# Altium footprint library Module_LattePanda(1).PcbLib: 2 footprints
Each footprint in its own frame and in the unit in brackets; x right, y up, seen from the top. Pads: shape width x height; smd on the part's side, far side on the other; paste and mask are expansions set on the pad; w line width, h text height; cw(c..) or ccw(c..) is an arc to the next point about the centre after c.
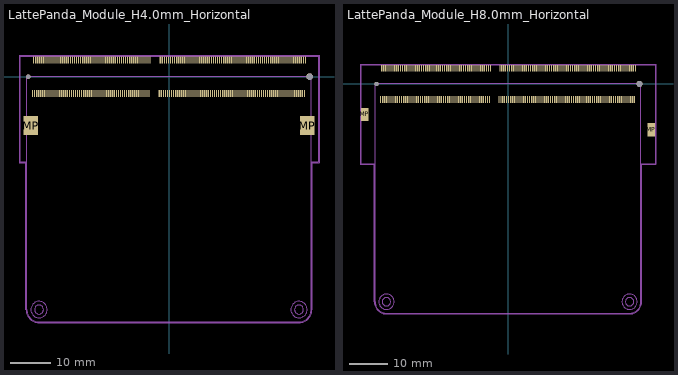
[diagram p0: the footprints below, top view; thin cyan lines are the x and y axes]

## LattePanda_Module_H4.0mm_Horizontal [mm]
pads (264):
  rect 0.3x1.75 smd: 1(33.375,4.1) 2(33.125,-4.1) 3(32.875,4.1) 4(32.625,-4.1) 5(32.375,4.1) 6(32.125,-4.1) 7(31.875,4.1) 8(31.625,-4.1) 9(31.375,4.1) 10(31.125,-4.1) 11(30.875,4.1) 12(30.625,-4.1) 13(30.375,4.1) 14(30.125,-4.1) 15(29.875,4.1) 16(29.625,-4.1) 17(29.375,4.1) 18(29.125,-4.1) 19(28.875,4.1) 20(28.625,-4.1) 21(28.375,4.1) 22(28.125,-4.1) 23(27.875,4.1) 24(27.625,-4.1) 25(27.375,4.1) 26(27.125,-4.1) 27(26.875,4.1) 28(26.625,-4.1) 29(26.375,4.1) 30(26.125,-4.1) 31(25.875,4.1) 32(25.625,-4.1) 33(25.375,4.1) 34(25.125,-4.1) 35(24.875,4.1) 36(24.625,-4.1) 37(24.375,4.1) 38(24.125,-4.1) 39(23.875,4.1) 40(23.625,-4.1) 41(23.375,4.1) 42(23.125,-4.1) 43(22.875,4.1) 44(22.625,-4.1) 45(22.375,4.1) 46(22.125,-4.1) 47(21.875,4.1) 48(21.625,-4.1) 49(21.375,4.1) 50(21.125,-4.1) 51(20.875,4.1) 52(20.625,-4.1) 53(20.375,4.1) 54(20.125,-4.1) 55(19.875,4.1) 56(19.625,-4.1) 57(19.375,4.1) 58(19.125,-4.1) 59(18.875,4.1) 60(18.625,-4.1) 61(18.375,4.1) 62(18.125,-4.1) 63(17.875,4.1) 64(17.625,-4.1) 65(17.375,4.1) 66(17.125,-4.1) 67(16.875,4.1) 68(16.625,-4.1) 69(16.375,4.1) 70(16.125,-4.1) 71(15.875,4.1) 72(15.625,-4.1) 73(15.375,4.1) 74(15.125,-4.1) 75(14.875,4.1) 76(14.625,-4.1) 77(14.375,4.1) 78(14.125,-4.1) 79(13.875,4.1) 80(13.625,-4.1) 81(13.375,4.1) 82(13.125,-4.1) 83(12.875,4.1) 84(12.625,-4.1) 85(12.375,4.1) 86(12.125,-4.1) 87(11.875,4.1) 88(11.625,-4.1) 89(11.375,4.1) 90(11.125,-4.1) 91(10.875,4.1) 92(10.625,-4.1) 93(10.375,4.1) 94(10.125,-4.1) 95(9.875,4.1) 96(9.625,-4.1) 97(9.375,4.1) 98(9.125,-4.1) 99(8.875,4.1) 100(8.625,-4.1) 101(8.375,4.1) 102(8.125,-4.1) 103(7.875,4.1) 104(7.625,-4.1) 105(7.375,4.1) 106(7.125,-4.1) 107(6.875,4.1) 108(6.625,-4.1) 109(6.375,4.1) 110(6.125,-4.1) 111(5.875,4.1) 112(5.625,-4.1) 113(5.375,4.1) 114(5.125,-4.1) 115(4.875,4.1) 116(4.625,-4.1) 117(4.375,4.1) 118(4.125,-4.1) 119(3.875,4.1) 120(3.625,-4.1) 121(3.375,4.1) 122(3.125,-4.1) 123(2.875,4.1) 124(2.625,-4.1) 125(2.375,4.1) 126(2.125,-4.1) 127(1.875,4.1) 128(1.625,-4.1) 129(1.375,4.1) 130(1.125,-4.1) 131(0.875,4.1) 132(0.625,-4.1) 133(0.375,4.1) 134(0.125,-4.1) 135(-0.125,4.1) 136(-0.375,-4.1) 137(-0.625,4.1) 138(-0.875,-4.1) 139(-1.125,4.1) 140(-1.375,-4.1) 141(-1.625,4.1) 142(-1.875,-4.1) 143(-2.125,4.1) 144(-2.375,-4.1) 145(-4.625,4.1) 146(-4.875,-4.1) 147(-5.125,4.1) 148(-5.375,-4.1) 149(-5.625,4.1) 150(-5.875,-4.1) 151(-6.125,4.1) 152(-6.375,-4.1) 153(-6.625,4.1) 154(-6.875,-4.1) 155(-7.125,4.1) 156(-7.375,-4.1) 157(-7.625,4.1) 158(-7.875,-4.1) 159(-8.125,4.1) 160(-8.375,-4.1) 161(-8.625,4.1) 162(-8.875,-4.1) 163(-9.125,4.1) 164(-9.375,-4.1) 165(-9.625,4.1) 166(-9.875,-4.1) 167(-10.125,4.1) 168(-10.375,-4.1) 169(-10.625,4.1) 170(-10.875,-4.1) 171(-11.125,4.1) 172(-11.375,-4.1) 173(-11.625,4.1) 174(-11.875,-4.1) 175(-12.125,4.1) 176(-12.375,-4.1) 177(-12.625,4.1) 178(-12.875,-4.1) 179(-13.125,4.1) 180(-13.375,-4.1) 181(-13.625,4.1) 182(-13.875,-4.1) 183(-14.125,4.1) 184(-14.375,-4.1) 185(-14.625,4.1) 186(-14.875,-4.1) 187(-15.125,4.1) 188(-15.375,-4.1) 189(-15.625,4.1) 190(-15.875,-4.1) 191(-16.125,4.1) 192(-16.375,-4.1) 193(-16.625,4.1) 194(-16.875,-4.1) 195(-17.125,4.1) 196(-17.375,-4.1) 197(-17.625,4.1) 198(-17.875,-4.1) 199(-18.125,4.1) 200(-18.375,-4.1) 201(-18.625,4.1) 202(-18.875,-4.1) 203(-19.125,4.1) 204(-19.375,-4.1) 205(-19.625,4.1) 206(-19.875,-4.1) 207(-20.125,4.1) 208(-20.375,-4.1) 209(-20.625,4.1) 210(-20.875,-4.1) 211(-21.125,4.1) 212(-21.375,-4.1) 213(-21.625,4.1) 214(-21.875,-4.1) 215(-22.125,4.1) 216(-22.375,-4.1) 217(-22.625,4.1) 218(-22.875,-4.1) 219(-23.125,4.1) 220(-23.375,-4.1) 221(-23.625,4.1) 222(-23.875,-4.1) 223(-24.125,4.1) 224(-24.375,-4.1) 225(-24.625,4.1) 226(-24.875,-4.1) 227(-25.125,4.1) 228(-25.375,-4.1) 229(-25.625,4.1) 230(-25.875,-4.1) 231(-26.125,4.1) 232(-26.375,-4.1) 233(-26.625,4.1) 234(-26.875,-4.1) 235(-27.125,4.1) 236(-27.375,-4.1) 237(-27.625,4.1) 238(-27.875,-4.1) 239(-28.125,4.1) 240(-28.375,-4.1) 241(-28.625,4.1) 242(-28.875,-4.1) 243(-29.125,4.1) 244(-29.375,-4.1) 245(-29.625,4.1) 246(-29.875,-4.1) 247(-30.125,4.1) 248(-30.375,-4.1) 249(-30.625,4.1) 250(-30.875,-4.1) 251(-31.125,4.1) 252(-31.375,-4.1) 253(-31.625,4.1) 254(-31.875,-4.1) 255(-32.125,4.1) 256(-32.375,-4.1) 257(-32.625,4.1) 258(-32.875,-4.1) 259(-33.125,4.1) 260(-33.375,-4.1)
  rect 3.5x4.6 smd: MP(-33.8,-12) MP(33.8,-12)
  round 1.1 hole 1.1: Un1(-34.4,0)
  round 1.6 hole 1.6: Un2(34.4,0)
Edge.Cuts:
  lines w0.254: -24.8,-58 -24.8,-6.5 cw(c-23.8,-6.5) -23.8,-5.5 23.8,-5.5 cw(c23.8,-6.5) 24.8,-6.5 24.8,-58 cw(c23.8,-58) 23.8,-59 -23.8,-59 cw(c-23.8,-58) -24.8,-58
Cmts.User:
  lines w0.254: -29.5,-54.5 -30,-55.5 ; -29,-55 -30,-55.5 ; -13,-50.5 -25,-50.5 -30,-55.5
  text "M2x1.5 SMT nuts x2" at -25,-50.286 h1
F.SilkS:
  lines w0.254: -36.6,-20.95 -36.6,5.1 36.6,5.1 36.6,-20.95 34.9,-20.95 34.9,-57 cw(c31.8,-57) 31.8,-60.1 -31.8,-60.1 cw(c-31.8,-57) -34.9,-57 -34.9,-20.95 -36.6,-20.95
F.Fab:
  circle w0.254: c-31.8,-57 r1.1
  circle w0.254: c-31.8,-57 r2
  circle w0.254: c31.8,-57 r1.1
  circle w0.254: c31.8,-57 r2
  lines w0.254: -34.8,-20.85 -36.5,-20.85 -36.5,5 36.5,5 36.5,-20.85 34.8,-20.85 ; -34.8,-57 -34.8,0 34.8,0 34.8,-57 cw(c31.8,-57) 31.8,-60 -31.8,-60 cw(c-31.8,-57) -34.8,-57
  text "'.Designator'" at -1.44,-2.899 h1
F.CrtYd:
  lines w0.254: -36.7,-21.05 -36.7,5.2 36.7,5.2 36.7,-21.05 35,-21.05 35,-57 cw(c31.8,-57) 31.8,-60.2 -31.8,-60.2 cw(c-31.8,-57) -35,-57 -35,-21.05 -36.7,-21.05

## LattePanda_Module_H8.0mm_Horizontal [mm]
pads (264):
  rect 0.3x1.75 smd: 1(33.375,4.1) 2(33.125,-4.1) 3(32.875,4.1) 4(32.625,-4.1) 5(32.375,4.1) 6(32.125,-4.1) 7(31.875,4.1) 8(31.625,-4.1) 9(31.375,4.1) 10(31.125,-4.1) 11(30.875,4.1) 12(30.625,-4.1) 13(30.375,4.1) 14(30.125,-4.1) 15(29.875,4.1) 16(29.625,-4.1) 17(29.375,4.1) 18(29.125,-4.1) 19(28.875,4.1) 20(28.625,-4.1) 21(28.375,4.1) 22(28.125,-4.1) 23(27.875,4.1) 24(27.625,-4.1) 25(27.375,4.1) 26(27.125,-4.1) 27(26.875,4.1) 28(26.625,-4.1) 29(26.375,4.1) 30(26.125,-4.1) 31(25.875,4.1) 32(25.625,-4.1) 33(25.375,4.1) 34(25.125,-4.1) 35(24.875,4.1) 36(24.625,-4.1) 37(24.375,4.1) 38(24.125,-4.1) 39(23.875,4.1) 40(23.625,-4.1) 41(23.375,4.1) 42(23.125,-4.1) 43(22.875,4.1) 44(22.625,-4.1) 45(22.375,4.1) 46(22.125,-4.1) 47(21.875,4.1) 48(21.625,-4.1) 49(21.375,4.1) 50(21.125,-4.1) 51(20.875,4.1) 52(20.625,-4.1) 53(20.375,4.1) 54(20.125,-4.1) 55(19.875,4.1) 56(19.625,-4.1) 57(19.375,4.1) 58(19.125,-4.1) 59(18.875,4.1) 60(18.625,-4.1) 61(18.375,4.1) 62(18.125,-4.1) 63(17.875,4.1) 64(17.625,-4.1) 65(17.375,4.1) 66(17.125,-4.1) 67(16.875,4.1) 68(16.625,-4.1) 69(16.375,4.1) 70(16.125,-4.1) 71(15.875,4.1) 72(15.625,-4.1) 73(15.375,4.1) 74(15.125,-4.1) 75(14.875,4.1) 76(14.625,-4.1) 77(14.375,4.1) 78(14.125,-4.1) 79(13.875,4.1) 80(13.625,-4.1) 81(13.375,4.1) 82(13.125,-4.1) 83(12.875,4.1) 84(12.625,-4.1) 85(12.375,4.1) 86(12.125,-4.1) 87(11.875,4.1) 88(11.625,-4.1) 89(11.375,4.1) 90(11.125,-4.1) 91(10.875,4.1) 92(10.625,-4.1) 93(10.375,4.1) 94(10.125,-4.1) 95(9.875,4.1) 96(9.625,-4.1) 97(9.375,4.1) 98(9.125,-4.1) 99(8.875,4.1) 100(8.625,-4.1) 101(8.375,4.1) 102(8.125,-4.1) 103(7.875,4.1) 104(7.625,-4.1) 105(7.375,4.1) 106(7.125,-4.1) 107(6.875,4.1) 108(6.625,-4.1) 109(6.375,4.1) 110(6.125,-4.1) 111(5.875,4.1) 112(5.625,-4.1) 113(5.375,4.1) 114(5.125,-4.1) 115(4.875,4.1) 116(4.625,-4.1) 117(4.375,4.1) 118(4.125,-4.1) 119(3.875,4.1) 120(3.625,-4.1) 121(3.375,4.1) 122(3.125,-4.1) 123(2.875,4.1) 124(2.625,-4.1) 125(2.375,4.1) 126(2.125,-4.1) 127(1.875,4.1) 128(1.625,-4.1) 129(1.375,4.1) 130(1.125,-4.1) 131(0.875,4.1) 132(0.625,-4.1) 133(0.375,4.1) 134(0.125,-4.1) 135(-0.125,4.1) 136(-0.375,-4.1) 137(-0.625,4.1) 138(-0.875,-4.1) 139(-1.125,4.1) 140(-1.375,-4.1) 141(-1.625,4.1) 142(-1.875,-4.1) 143(-2.125,4.1) 144(-2.375,-4.1) 145(-4.625,4.1) 146(-4.875,-4.1) 147(-5.125,4.1) 148(-5.375,-4.1) 149(-5.625,4.1) 150(-5.875,-4.1) 151(-6.125,4.1) 152(-6.375,-4.1) 153(-6.625,4.1) 154(-6.875,-4.1) 155(-7.125,4.1) 156(-7.375,-4.1) 157(-7.625,4.1) 158(-7.875,-4.1) 159(-8.125,4.1) 160(-8.375,-4.1) 161(-8.625,4.1) 162(-8.875,-4.1) 163(-9.125,4.1) 164(-9.375,-4.1) 165(-9.625,4.1) 166(-9.875,-4.1) 167(-10.125,4.1) 168(-10.375,-4.1) 169(-10.625,4.1) 170(-10.875,-4.1) 171(-11.125,4.1) 172(-11.375,-4.1) 173(-11.625,4.1) 174(-11.875,-4.1) 175(-12.125,4.1) 176(-12.375,-4.1) 177(-12.625,4.1) 178(-12.875,-4.1) 179(-13.125,4.1) 180(-13.375,-4.1) 181(-13.625,4.1) 182(-13.875,-4.1) 183(-14.125,4.1) 184(-14.375,-4.1) 185(-14.625,4.1) 186(-14.875,-4.1) 187(-15.125,4.1) 188(-15.375,-4.1) 189(-15.625,4.1) 190(-15.875,-4.1) 191(-16.125,4.1) 192(-16.375,-4.1) 193(-16.625,4.1) 194(-16.875,-4.1) 195(-17.125,4.1) 196(-17.375,-4.1) 197(-17.625,4.1) 198(-17.875,-4.1) 199(-18.125,4.1) 200(-18.375,-4.1) 201(-18.625,4.1) 202(-18.875,-4.1) 203(-19.125,4.1) 204(-19.375,-4.1) 205(-19.625,4.1) 206(-19.875,-4.1) 207(-20.125,4.1) 208(-20.375,-4.1) 209(-20.625,4.1) 210(-20.875,-4.1) 211(-21.125,4.1) 212(-21.375,-4.1) 213(-21.625,4.1) 214(-21.875,-4.1) 215(-22.125,4.1) 216(-22.375,-4.1) 217(-22.625,4.1) 218(-22.875,-4.1) 219(-23.125,4.1) 220(-23.375,-4.1) 221(-23.625,4.1) 222(-23.875,-4.1) 223(-24.125,4.1) 224(-24.375,-4.1) 225(-24.625,4.1) 226(-24.875,-4.1) 227(-25.125,4.1) 228(-25.375,-4.1) 229(-25.625,4.1) 230(-25.875,-4.1) 231(-26.125,4.1) 232(-26.375,-4.1) 233(-26.625,4.1) 234(-26.875,-4.1) 235(-27.125,4.1) 236(-27.375,-4.1) 237(-27.625,4.1) 238(-27.875,-4.1) 239(-28.125,4.1) 240(-28.375,-4.1) 241(-28.625,4.1) 242(-28.875,-4.1) 243(-29.125,4.1) 244(-29.375,-4.1) 245(-29.625,4.1) 246(-29.875,-4.1) 247(-30.125,4.1) 248(-30.375,-4.1) 249(-30.625,4.1) 250(-30.875,-4.1) 251(-31.125,4.1) 252(-31.375,-4.1) 253(-31.625,4.1) 254(-31.875,-4.1) 255(-32.125,4.1) 256(-32.375,-4.1) 257(-32.625,4.1) 258(-32.875,-4.1) 259(-33.125,4.1) 260(-33.375,-4.1)
  rect 2x3.5 smd: MP(-37.5,-8) MP(37.5,-12)
  round 1.1 hole 1.1: Un1(-34.4,0)
  round 1.6 hole 1.6: Un2(34.4,0)
Cmts.User:
  lines w0.254: -29.5,-54.5 -30,-55.5 ; -29,-55 -30,-55.5 ; -13,-50.5 -25,-50.5 -30,-55.5
  text "M2x5.5 SMT nuts x2" at -25,-50.286 h1
F.SilkS:
  lines w0.254: -38.6,-20.95 -38.6,5.1 38.6,5.1 38.6,-20.95 34.9,-20.95 34.9,-57 cw(c31.8,-57) 31.8,-60.1 -31.8,-60.1 cw(c-31.8,-57) -34.9,-57 -34.9,-20.95 -38.6,-20.95
F.Fab:
  circle w0.254: c-31.8,-57 r1.1
  circle w0.254: c-31.8,-57 r2
  circle w0.254: c31.8,-57 r1.1
  circle w0.254: c31.8,-57 r2
  lines w0.254: -34.8,-20.85 -38.5,-20.85 -38.5,5 38.5,5 38.5,-20.85 34.8,-20.85 ; -34.8,-57 -34.8,0 34.8,0 34.8,-57 cw(c31.8,-57) 31.8,-60 -31.8,-60 cw(c-31.8,-57) -34.8,-57
  text "'.Designator'" at -1.44,-2.899 h1
F.CrtYd:
  lines w0.254: -38.7,-21.05 -38.7,5.2 38.7,5.2 38.7,-21.05 35,-21.05 35,-57 cw(c31.8,-57) 31.8,-60.2 -31.8,-60.2 cw(c-31.8,-57) -35,-57 -35,-21.05 -38.7,-21.05